# Altium footprint library VNH2SP30.PcbLib: 1 footprints
Each footprint in its own frame and in the unit in brackets; x right, y up, seen from the top. Pads: shape width x height; smd on the part's side, far side on the other; paste and mask are expansions set on the pad; w line width, h text height; cw(c..) or ccw(c..) is an arc to the next point about the centre after c.
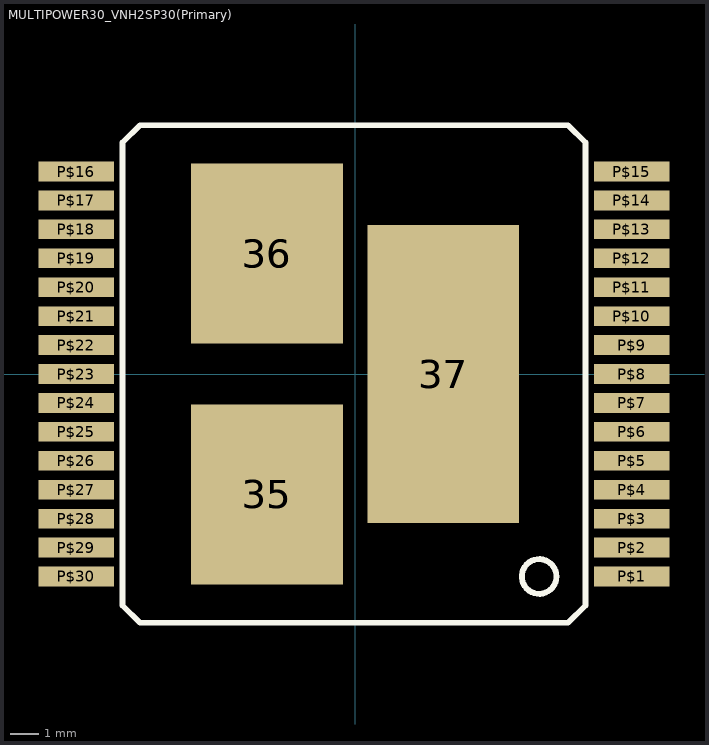
[diagram p0: the footprint, top view; thin cyan lines are the x and y axes]

## MULTIPOWER30_VNH2SP30(Primary) [mm]
pads (36):
  rect 5.25x6.23 smd paste-25.4 mask-25.4: 35(-3.05,-4.165) 36(-3.05,4.165)
  rect 5.45x6.43 on Top Solder paste-25.4 mask-25.4: 35(-3.05,-4.165) 36(-3.05,4.165)
  rect 5.25x10.3 smd paste-25.4 mask-25.4: 37(3.05,0)
  rect 5.45x10.5 on Top Solder paste-25.4 mask-25.4: 37(3.05,0)
  rect 2.6x0.68 smd paste-25.4 mask-25.4: P$1(9.563,-7) P$2(9.563,-6) P$3(9.563,-5) P$4(9.563,-4) P$5(9.563,-3) P$6(9.563,-2) P$7(9.563,-1) P$8(9.563,0) P$9(9.563,1) P$10(9.563,2) P$11(9.563,3) P$12(9.563,4) P$13(9.563,5) P$14(9.563,6) P$15(9.563,7) P$16(-9.637,7) P$17(-9.637,6) P$18(-9.637,5) P$19(-9.637,4) P$20(-9.637,3) P$21(-9.637,2) P$22(-9.637,1) P$23(-9.637,0) P$24(-9.637,-1) P$25(-9.637,-2) P$26(-9.637,-3) P$27(-9.637,-4) P$28(-9.637,-5) P$29(-9.637,-6) P$30(-9.637,-7)
Top Overlay:
  circle w0.203: c6.363,-7 r0.6
  lines w0.203: -8.037,-8 -7.437,-8.6 7.363,-8.6 7.963,-8 7.963,8 7.363,8.6 -7.437,8.6 -8.037,8 -8.037,-8
Top Paste:
  region: -8.337,-7.34 -8.337,-6.66 -10.937,-6.66 -10.937,-7.34
  region: -8.337,-6.34 -8.337,-5.66 -10.937,-5.66 -10.937,-6.34
  region: -8.337,-5.34 -8.337,-4.66 -10.937,-4.66 -10.937,-5.34
  region: -8.337,-4.34 -8.337,-3.66 -10.937,-3.66 -10.937,-4.34
  region: -8.337,-3.34 -8.337,-2.66 -10.937,-2.66 -10.937,-3.34
  region: -8.337,-2.34 -8.337,-1.66 -10.937,-1.66 -10.937,-2.34
  region: -8.337,-1.34 -8.337,-0.66 -10.937,-0.66 -10.937,-1.34
  region: -8.337,-0.34 -8.337,0.34 -10.937,0.34 -10.937,-0.34
  region: -8.337,0.66 -8.337,1.34 -10.937,1.34 -10.937,0.66
  region: -8.337,1.66 -8.337,2.34 -10.937,2.34 -10.937,1.66
  region: -8.337,2.66 -8.337,3.34 -10.937,3.34 -10.937,2.66
  region: -8.337,3.66 -8.337,4.34 -10.937,4.34 -10.937,3.66
  region: -8.337,4.66 -8.337,5.34 -10.937,5.34 -10.937,4.66
  region: -8.337,5.66 -8.337,6.34 -10.937,6.34 -10.937,5.66
  region: -8.337,6.66 -8.337,7.34 -10.937,7.34 -10.937,6.66
  region: 10.863,6.66 10.863,7.34 8.263,7.34 8.263,6.66
  region: 10.863,5.66 10.863,6.34 8.263,6.34 8.263,5.66
  region: 10.863,4.66 10.863,5.34 8.263,5.34 8.263,4.66
  region: 10.863,3.66 10.863,4.34 8.263,4.34 8.263,3.66
  region: 10.863,2.66 10.863,3.34 8.263,3.34 8.263,2.66
  region: 10.863,1.66 10.863,2.34 8.263,2.34 8.263,1.66
  region: 10.863,0.66 10.863,1.34 8.263,1.34 8.263,0.66
  region: 10.863,-0.34 10.863,0.34 8.263,0.34 8.263,-0.34
  region: 10.863,-1.34 10.863,-0.66 8.263,-0.66 8.263,-1.34
  region: 10.863,-2.34 10.863,-1.66 8.263,-1.66 8.263,-2.34
  region: 10.863,-3.34 10.863,-2.66 8.263,-2.66 8.263,-3.34
  region: 10.863,-4.34 10.863,-3.66 8.263,-3.66 8.263,-4.34
  region: 10.863,-5.34 10.863,-4.66 8.263,-4.66 8.263,-5.34
  region: 10.863,-6.34 10.863,-5.66 8.263,-5.66 8.263,-6.34
  region: 10.863,-7.34 10.863,-6.66 8.263,-6.66 8.263,-7.34
Top Solder:
  region: -8.237,-7.44 -8.237,-6.56 -11.037,-6.56 -11.037,-7.44
  region: -8.237,-6.44 -8.237,-5.56 -11.037,-5.56 -11.037,-6.44
  region: -8.237,-5.44 -8.237,-4.56 -11.037,-4.56 -11.037,-5.44
  region: -8.237,-4.44 -8.237,-3.56 -11.037,-3.56 -11.037,-4.44
  region: -8.237,-3.44 -8.237,-2.56 -11.037,-2.56 -11.037,-3.44
  region: -8.237,-2.44 -8.237,-1.56 -11.037,-1.56 -11.037,-2.44
  region: -8.237,-1.44 -8.237,-0.56 -11.037,-0.56 -11.037,-1.44
  region: -8.237,-0.44 -8.237,0.44 -11.037,0.44 -11.037,-0.44
  region: -8.237,0.56 -8.237,1.44 -11.037,1.44 -11.037,0.56
  region: -8.237,1.56 -8.237,2.44 -11.037,2.44 -11.037,1.56
  region: -8.237,2.56 -8.237,3.44 -11.037,3.44 -11.037,2.56
  region: -8.237,3.56 -8.237,4.44 -11.037,4.44 -11.037,3.56
  region: -8.237,4.56 -8.237,5.44 -11.037,5.44 -11.037,4.56
  region: -8.237,5.56 -8.237,6.44 -11.037,6.44 -11.037,5.56
  region: -8.237,6.56 -8.237,7.44 -11.037,7.44 -11.037,6.56
  region: 10.963,6.56 10.963,7.44 8.163,7.44 8.163,6.56
  region: 10.963,5.56 10.963,6.44 8.163,6.44 8.163,5.56
  region: 10.963,4.56 10.963,5.44 8.163,5.44 8.163,4.56
  region: 10.963,3.56 10.963,4.44 8.163,4.44 8.163,3.56
  region: 10.963,2.56 10.963,3.44 8.163,3.44 8.163,2.56
  region: 10.963,1.56 10.963,2.44 8.163,2.44 8.163,1.56
  region: 10.963,0.56 10.963,1.44 8.163,1.44 8.163,0.56
  region: 10.963,-0.44 10.963,0.44 8.163,0.44 8.163,-0.44
  region: 10.963,-1.44 10.963,-0.56 8.163,-0.56 8.163,-1.44
  region: 10.963,-2.44 10.963,-1.56 8.163,-1.56 8.163,-2.44
  region: 10.963,-3.44 10.963,-2.56 8.163,-2.56 8.163,-3.44
  region: 10.963,-4.44 10.963,-3.56 8.163,-3.56 8.163,-4.44
  region: 10.963,-5.44 10.963,-4.56 8.163,-4.56 8.163,-5.44
  region: 10.963,-6.44 10.963,-5.56 8.163,-5.56 8.163,-6.44
  region: 10.963,-7.44 10.963,-6.56 8.163,-6.56 8.163,-7.44